# Altium integrated library 1N4742.IntLib: 1 symbol
Pins are listed as number, name and electrical type; pins without a type are passive.

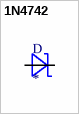
[diagram p0: symbol 1N4742]

## 1N4742
designator D
Diode Zener Single 12V 10% 1000mW 2-Pin DO-41; MP: 1N4742; MF: EIC; Price: None; Arrow_Americas-Purchase-URL: https://snapeda.com/shop?store=Arrow+Americas&id=4727211; Package: DO-41 EIC; Value: *; Availability: Unavailable; SnapEDA_Link: https://www.snapeda.com/parts/1N4742/Schleicher/view-part/4727211/?ref=snap
footprint DO41Z10
pins: A, C